# Altium schematic symbol library LM2576S-5.0.SchLib: 1 symbol
Pins are listed as number, name and electrical type; pins without a type are passive.

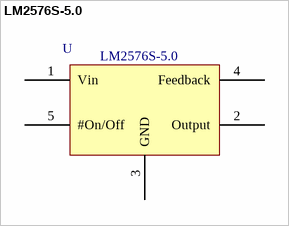
[diagram p0: symbol LM2576S-5.0]

## LM2576S-5.0
designator U  value LM2576S-5.0  (hidden comment: *)
Manufacturer: Texas Instruments; Manufacturer Code: LM2576S-5.0/NOPB; Input Voltage (Max): 40V; Output Current: 3A; Farnell Code: 1469178; Unit Price: 2,88 €
footprint TO-263 (Footprint not found)
pins: 1 Vin, 2 Output, 3 GND, 4 Feedback, 5 #On/Off